# EAGLE library part TPS7A49+36V150MA_REG (library gael)
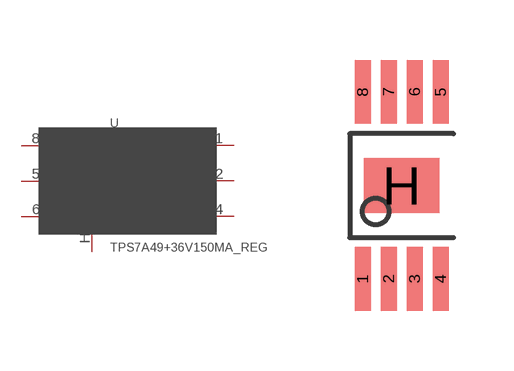
[diagram p5: symbol with the pads of MSOP8; footprint MSOP8]

Designator prefix -

## TPS7A49+36V150MA_REG  [MSOP8]
1  OUT
2  FB
4  GND
5  EN
6  NR/SS
8  IN
H  H

## Footprint MSOP8 (pad centres in mm)
smd 0.4 x 1.6: 1 0.295,-1.065; 2 0.945,-1.065; 3 1.595,-1.065; 4 2.245,-1.065; 5 2.245,3.615; 6 1.595,3.615; 7 0.945,3.615; 8 0.295,3.615
smd 1.89 x 1.372: H 1.27,1.27